# Altium integrated library cts.IntLib: 2 symbols
Pins are listed as number, name and electrical type; pins without a type are passive.

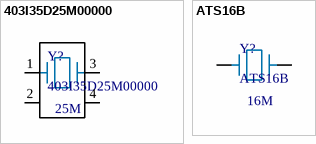
[diagram p0: symbols 403I35D25M00000 to ATS16B]

## 403I35D25M00000
designator Y?  Frequency: 25M
Crystals 25MHz 18pF 30ppm -40C +85C
footprint 403
pins: 1, 2, 3, 4

## ATS16B
designator Y?  Frequency: 16M
Crystals 16MHz 18pF 30ppm -20C 70C
footprint ATS16B
pins: 1, 2